# Altium footprint library 耳机插座.PcbLib: 1 footprints
Each footprint in its own frame and in the unit in brackets; x right, y up, seen from the top. Pads: shape width x height; smd on the part's side, far side on the other; paste and mask are expansions set on the pad; w line width, h text height; cw(c..) or ccw(c..) is an arc to the next point about the centre after c.
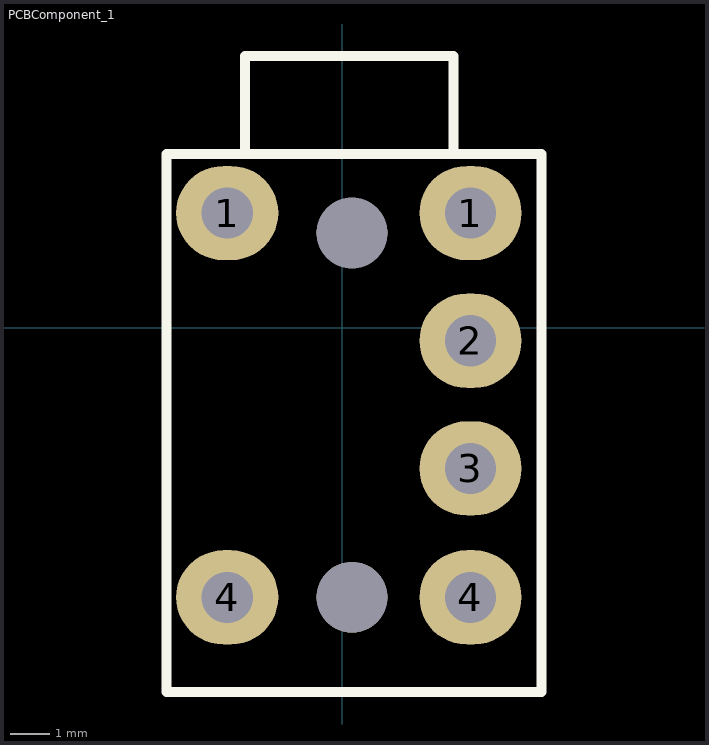
[diagram p0: the footprint, top view; thin cyan lines are the x and y axes]

## PCBComponent_1 [mm]
pads (8):
  oval 2.6x2.4 hole 1.3: 1(-2.921,2.921) 1(3.268,2.921) 2(3.268,-0.329) 3(3.268,-3.579) 4(-2.921,-6.858) 4(3.268,-6.858)
  round 1.8 hole 1.8: ""(0.254,-6.858) ""(0.254,2.413)
Top Overlay:
  lines w0.254: -2.463,4.421 -2.463,6.921 2.837,6.921 2.837,4.521 ; -4.471,-9.271 -4.471,4.421 5.08,4.421 5.08,-9.271 -4.471,-9.271